# Altium footprint library MAX232.PcbLib: 1 footprints
Each footprint in its own frame and in the unit in brackets; x right, y up, seen from the top. Pads: shape width x height; smd on the part's side, far side on the other; paste and mask are expansions set on the pad; w line width, h text height; cw(c..) or ccw(c..) is an arc to the next point about the centre after c.
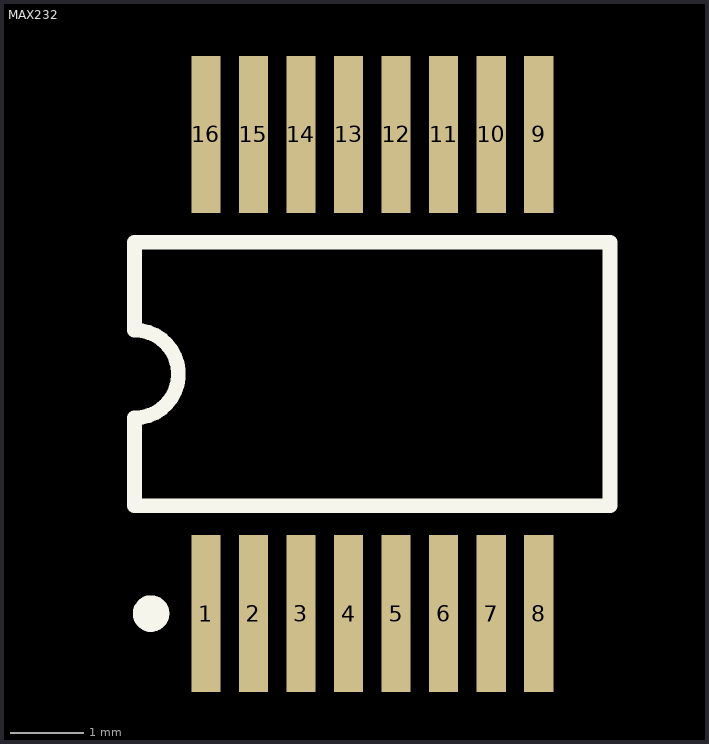
[diagram p0: the footprint, top view; thin cyan lines are the x and y axes]

## MAX232 [mm]
pads (16):
  rect 0.4x2.15 smd: 1(-794.882,-904.721) 2(-794.232,-904.721) 3(-793.582,-904.721) 4(-792.932,-904.721) 5(-792.282,-904.721) 6(-791.632,-904.721) 7(-790.982,-904.721) 8(-790.332,-904.721) 9(-790.332,-898.171) 10(-790.982,-898.171) 11(-791.632,-898.171) 12(-792.282,-898.171) 13(-792.932,-898.171) 14(-793.582,-898.171) 15(-794.232,-898.171) 16(-794.882,-898.171)
Top Overlay:
  circle w0.25: c-795.632,-904.721 r0.125
  lines w0.2: -795.857,-903.246 -789.357,-903.246 -789.357,-899.646 -795.857,-899.646 -795.857,-900.846 cw(c-795.857,-901.446) -795.857,-902.046 -795.857,-903.246